# Altium footprint library PCB1.PcbLib: 103 footprints (part 5 of 7)
Each footprint in its own frame and in the unit in brackets; x right, y up, seen from the top. Pads: shape width x height; smd on the part's side, far side on the other; paste and mask are expansions set on the pad; w line width, h text height; cw(c..) or ccw(c..) is an arc to the next point about the centre after c.
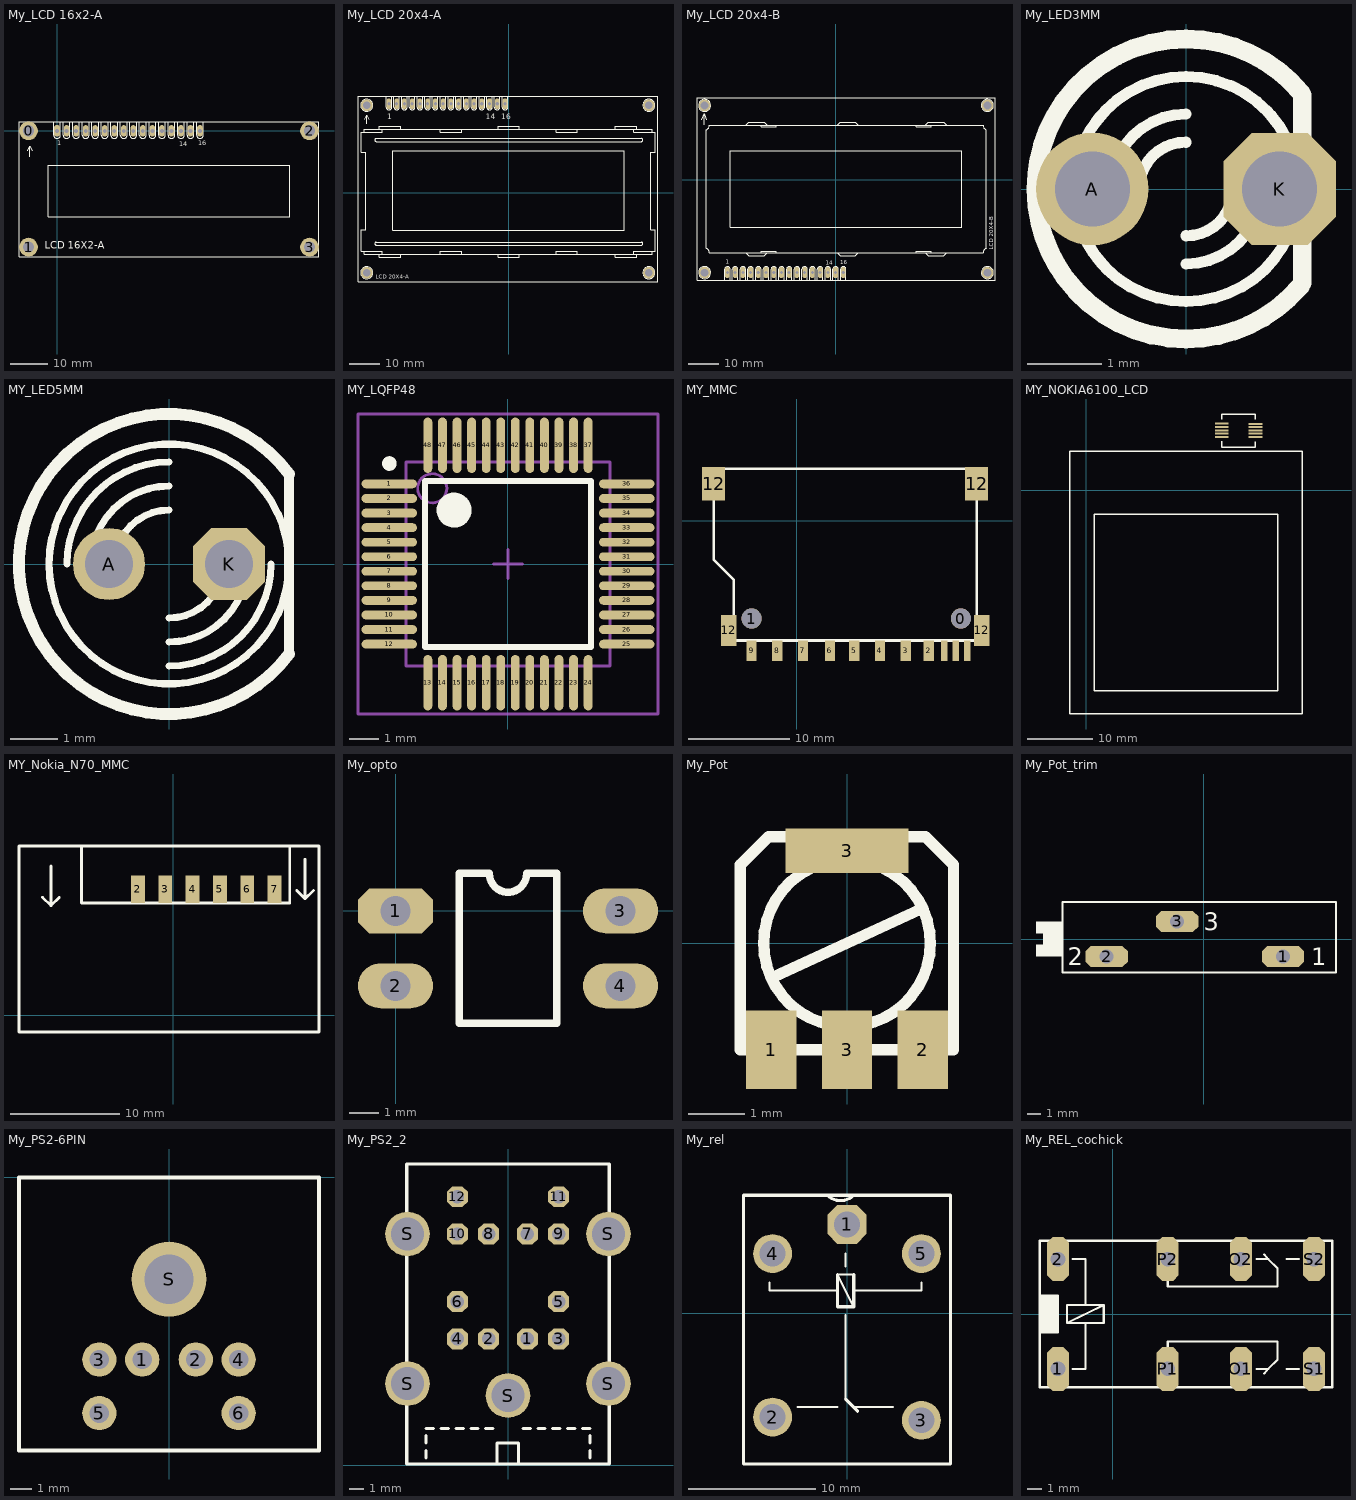
[diagram p4: the footprints below, top view; thin cyan lines are the x and y axes]

## My_LCD 16x2-A [mil]
pads (20):
  round 196.85 hole 118.11: 0(-300,0) 1(-300,-1220) 2(2650,0) 3(2650,-1220)
  oct 60x120 hole 40: 1(0,0)
  oval 60x120 hole 40: 2(100,0) 3(200,0) 4(300,0) 5(400,0) 6(500,0) 7(600,0) 8(700,0) 9(800,0) 10(900,0) 11(1000,0) 12(1100,0) 13(1200,0) 14(1300,0) 15(1400,0) 16(1500,0)
Top Overlay:
  circle w5: c-301.58,-1220.5 r49.21
  circle w5: c2651.18,-1220.5 r49.21
  circle w5: c-301.58,0 r49.21
  circle w5: c2651.18,0 r49.21
  lines w5: -310,-210 -285,-160 -260,-210 ; -285,-270.7 -285,-165 ; -35,95 -35,-45 ccw(c0,-45) 35,-45 35,95 ; 65,95 65,-45 ccw(c100,-45) 135,-45 135,95 ; 165,95 165,-45 ccw(c200,-45) 235,-45 235,95 ; 265,95 265,-45 ccw(c300,-45) 335,-45 335,95 ; 365,95 365,-45 ccw(c400,-45) 435,-45 435,95 ; 465,95 465,-45 ccw(c500,-45) 535,-45 535,95 ; 565,95 565,-45 ccw(c600,-45) 635,-45 635,95 ; 665,95 665,-45 ccw(c700,-45) 735,-45 735,95 ; 765,95 765,-45 ccw(c800,-45) 835,-45 835,95 ; 865,95 865,-45 ccw(c900,-45) 935,-45 935,95 ; 965,95 965,-45 ccw(c1000,-45) 1035,-45 1035,95 ; 1065,95 1065,-45 ccw(c1100,-45) 1135,-45 1135,95 ; 1165,95 1165,-45 ccw(c1200,-45) 1235,-45 1235,95 ; 1265,95 1265,-45 ccw(c1300,-45) 1335,-45 1335,95 ; 1365,95 1365,-45 ccw(c1400,-45) 1435,-45 1435,95 ; 1465,95 1465,-45 ccw(c1500,-45) 1535,-45 1535,95 ; -400,-1318.93 2749.6,-1318.93 2749.6,98.4 -400,98.4 -400,-1318.93 ; -94.88,-901.6 -94.88,-358.3 2444.49,-358.3 2444.49,-901.6 -94.88,-901.6
  text "14" at 1280,-160 h50
  text "1" at 0,-150 h50
  text "16" at 1480,-150 h50
  text "LCD 16X2-A" at -130,-1240 h75

## My_LCD 20x4-A [mil]
pads (20):
  oct 60x140 hole 40: 1(-1550.5,1150) 2(-1450.5,1150) 3(-1350.5,1150) 4(-1250.5,1150) 5(-1150.5,1150) 6(-1050.5,1150) 7(-950.5,1150) 8(-850.5,1150) 9(-750.5,1150) 10(-650.5,1150) 11(-550.5,1150) 12(-450.5,1150) 13(-350.5,1150) 14(-250.5,1150) 15(-150.5,1150) 16(-50.5,1150)
  round 150 hole 100: P$1(-1837.5,-1035) P$2(1808.5,-1035) P$3(1808.5,1130.5) P$4(-1837.5,1130)
Top Overlay:
  drawing of 163 lines, arcs and shapes, not listed
  text "LCD 20X4-A" at -1719.69,-1112.2 h50
  text "14" at -300,950 h70
  text "16" at -100,950 h70
  text "1" at -1575,950 h70

## My_LCD 20x4-B [mil]
pads (20):
  oct 60x140 hole 40: 1(-1400.5,-1199) 2(-1300.5,-1199) 3(-1200.5,-1199) 4(-1100.5,-1199) 5(-1000.5,-1199) 6(-900.5,-1199) 7(-800.5,-1199) 8(-700.5,-1199) 9(-600.5,-1199) 10(-500.5,-1199) 11(-400.5,-1199) 12(-300.5,-1199) 13(-200.5,-1199) 14(-100.5,-1199) 15(-0.5,-1199) 16(99.5,-1199)
  round 150 hole 100: P$1(-1695.5,965.5) P$2(-1695.5,-1199.5) P$3(1966,-1200) P$4(1966,965.5)
Top Overlay:
  circle w5: c-1695.5,-1199.5 r78
  circle w5: c1966,-1199.5 r78
  circle w5: c1966,965.5 r78
  circle w5: c-1695.5,965.5 r78
  lines w5: -1734.95,-1199.6 -1656.21,-1199.6 ; -1734.95,965.8 -1656.21,965.8 ; -1730,778.7 -1700,859 -1675,778.7 ; -1700,716.5 -1700,844 ; -1695.58,-1239 -1695.58,-1160.2 ; -1695.58,926.4 -1695.58,1005.1 ; -1673.23,-885.9 -1673.23,649.6 ; -1673.23,-885.83 cw(c-1692.91,-941.6) -1633.86,-944.88 -1161.42,-944.9 ; -1673.23,649.53 ccw(c-1692.91,705.3) -1633.86,708.58 -1161.42,708.6 ; -1435,-1295 -1435,-1155 cw(c-1400,-1157.5) -1365,-1160 -1365,-1295 ; -1335,-1295 -1335,-1155 cw(c-1300,-1157.5) -1265,-1160 -1265,-1295 ; -1235,-1295 -1235,-1155 cw(c-1200,-1157.5) -1165,-1160 -1165,-1295 ; -1135,-1295 -1135,-1155 cw(c-1100,-1157.5) -1065,-1160 -1065,-1295 ; -1035,-1295 -1035,-1155 cw(c-1000,-1157.5) -965,-1160 -965,-1295 ; -935,-1295 -935,-1155 cw(c-900,-1157.5) -865,-1160 -865,-1295 ; -835,-1295 -835,-1155 cw(c-800,-1157.5) -765,-1160 -765,-1295 ; -735,-1295 -735,-1155 cw(c-700,-1157.5) -665,-1160 -665,-1295 ; -635,-1295 -635,-1155 cw(c-600,-1157.5) -565,-1160 -565,-1295 ; -535,-1295 -535,-1155 cw(c-500,-1157.5) -465,-1160 -465,-1295 ; -435,-1295 -435,-1155 cw(c-400,-1157.5) -365,-1160 -365,-1295 ; -335,-1295 -335,-1155 cw(c-300,-1157.5) -265,-1160 -265,-1295 ; -235,-1295 -235,-1155 cw(c-200,-1157.5) -165,-1160 -165,-1295 ; -135,-1295 -135,-1155 cw(c-100,-1157.5) -65,-1160 -65,-1295 ; -35,-1295 -35,-1155 cw(c0,-1157.5) 35,-1160 35,-1295 ; 65,-1295 65,-1155 cw(c100,-1157.5) 135,-1160 135,-1295 ; 1631.19,316.1 1631.19,375.2 ; 1926.47,-1199.6 2005.21,-1199.6 ; 1926.47,965.8 2005.21,965.8 ; 1948.82,-885.9 1948.82,649.6 ; 1948.82,-885.83 ccw(c1968.5,-941.6) 1909.45,-944.88 1437.01,-944.9 ; 1948.82,649.53 cw(c1968.5,705.3) 1909.45,708.58 1437.01,708.6 ; 1965.84,-1239 1965.84,-1160.2 ; 1965.84,926.4 1965.84,1005.1 ; -1161.42,-944.9 -964.57,-944.9 ; -1161.42,-944.9 -1122.05,-984.3 -925.2,-984.3 -885.83,-944.9 ; -1161.42,708.6 -964.57,708.6 ; -1161.42,708.6 -1122.05,748 -925.2,748 -885.83,708.6 ; -964.57,-944.9 -885.83,-944.9 ; -964.57,-944.9 -964.57,-925.2 -767.72,-925.2 -767.72,-944.9 ; -964.57,708.6 -885.83,708.6 ; -964.57,708.6 -964.57,688.9 -767.72,688.9 -767.72,708.6 ; -885.83,-944.9 -767.72,-944.9 ; -885.83,708.6 -767.72,708.6 ; -767.72,-944.9 19.68,-944.9 ; -767.72,708.6 19.68,708.6 ; 19.68,-944.9 295.27,-944.9 ; 19.68,-944.9 59.05,-984.3 255.9,-984.3 295.27,-944.9 ; 19.68,708.6 295.27,708.6 ; 19.68,708.6 59.05,748 255.9,748 295.27,708.6 ; 295.27,-944.9 1043.31,-944.9 ; 295.27,708.6 1043.31,708.6 ; 1043.31,-944.9 1161.42,-944.9 ; 1043.31,-944.9 1043.31,-925.2 1240.16,-925.2 1240.16,-944.9 ; 1043.31,708.6 1161.42,708.6 ; 1043.31,708.6 1043.31,688.9 1240.16,688.9 1240.16,708.6 ; 1161.42,-944.9 1240.16,-944.9 ; 1161.42,-944.9 1200.79,-984.3 1397.64,-984.3 1437.01,-944.9 ; 1161.42,708.6 1240.16,708.6 ; 1161.42,708.6 1200.79,748 1397.64,748 1437.01,708.6 ; 1240.16,-944.9 1437.01,-944.9 ; 1240.16,708.6 1437.01,708.6 ; 1631.19,375.2 -1360.93,375.2 -1360.93,-609.1 1631.19,-609.1 1631.19,375.2 ; -1794,-1298 2064.27,-1298 2064.27,1064.2 -1794,1064.2 -1794,-1298
  text "14" at -130,-1100 h50
  text "1" at -1420,-1084 h50
  text "16" at 60,-1094 h50
  text "LCD 20X4-B" at 2040.16,-903.2 h50

## My_LED3MM [mil]
pads (2):
  round 60 hole 40: A(-50,0)
  oct 60x60 hole 40: K(50,0)
Top Overlay:
  lines w6: -48,36 cw(c0,0) 0,60 cw(c0,0) 48.82,34.87 ; -47.36,-36.83 ccw(c0,0) 0,-60 ccw(c0,0) 47.36,-36.83 ; -46.09,38.41 ccw(c0,0) -60,0 ccw(c0,0) -44.85,-39.86 ; -40,0 cw(c0,0) 0,40 ; -25,0 cw(c0,0) 0,25 ; 0,-40 ccw(c0,0) 40,0 ; 0,-25 ccw(c0,0) 25,0 ; 45.56,39.05 cw(c0,0) 60,0 cw(c0,0) 46.09,-38.41
  lines w10: -70.59,37.65 cw(c0,0) 0,80 cw(c0,0) 61.46,51.22 ; -70.44,37.93 ccw(c0,0) -80,0 ccw(c0,0) -68.13,-41.92 ; -69.46,-39.69 ccw(c0,0) 0,-80 ccw(c0,0) 61.07,-51.68 ; 62,-50 62,50

## MY_LED5MM [mil]
pads (2):
  round 60 hole 40: A(-50,0)
  oct 60x60 hole 40: K(50,0)
Top Overlay:
  circle w6: c0,0 r100
  lines w6: -85,0 cw(c0,0) 0,85 ; -65,0 cw(c0,0) 0,65 ; -45,0 cw(c0,0) 0,45 ; 0,-85 ccw(c0,0) 85,0 ; 0,-65 ccw(c0,0) 65,0 ; 0,-45 ccw(c0,0) 45,0
  lines w8: 100,-75 100,75
  lines w10: 100,-75 cw(c0,0) 100,75

## MY_LQFP48 [mm] "TSQFP, 48-Leads, Body 9.0x9.0mm (max), Pitch 0.50mm, IPC Medium Density"
height 1.6
pads (48):
  oval 1.905x0.3 smd: 1(-4.075,2.75) 2(-4.075,2.25) 3(-4.075,1.75) 4(-4.075,1.25) 5(-4.075,0.75) 6(-4.075,0.25) 7(-4.075,-0.25) 8(-4.075,-0.75) 9(-4.075,-1.25) 10(-4.075,-1.75) 11(-4.075,-2.25) 12(-4.075,-2.75) 25(4.075,-2.75) 26(4.075,-2.25) 27(4.075,-1.75) 28(4.075,-1.25) 29(4.075,-0.75) 30(4.075,-0.25) 31(4.075,0.25) 32(4.075,0.75) 33(4.075,1.25) 34(4.075,1.75) 35(4.075,2.25) 36(4.075,2.75)
  oval 0.3x1.905 smd: 13(-2.75,-4.075) 14(-2.25,-4.075) 15(-1.75,-4.075) 16(-1.25,-4.075) 17(-0.75,-4.075) 18(-0.25,-4.075) 19(0.25,-4.075) 20(0.75,-4.075) 21(1.25,-4.075) 22(1.75,-4.075) 23(2.25,-4.075) 24(2.75,-4.075) 37(2.75,4.075) 38(2.25,4.075) 39(1.75,4.075) 40(1.25,4.075) 41(0.75,4.075) 42(0.25,4.075) 43(-0.25,4.075) 44(-0.75,4.075) 45(-1.25,4.075) 46(-1.75,4.075) 47(-2.25,4.075) 48(-2.75,4.075)
Top Overlay:
  circle w0.25: c-4.075,3.45 r0.125
  circle w0.6: c-1.85,1.85 r0.3
  lines w0.2: -2.85,-2.85 -2.85,2.85 2.85,2.85 2.85,-2.85 -2.85,-2.85
Mechanical 13:
  circle w0.1: c-2.6,2.6 r0.5
  lines w0.1: -3.5,-3.5 -3.5,3.5 3.5,3.5 3.5,-3.5 -3.5,-3.5
Mechanical 15:
  lines w0.1: -0.5,0 0.5,0 ; 0,-0.5 0,0.5 ; -5.15,-5.15 -5.15,5.15 5.15,5.15 5.15,-5.15 -5.15,-5.15
3D body: height 1.6, standoff 0.05, extent -3.5,-3.5 3.5,3.5

## MY_MMC [mil]
height 78.74
pads (17):
  round 78.74 hole 78.74: 0(640,-380) 1(-175,-380)
  rect 25x80 smd: 1(575,-505) 10(620,-505) 11(665,-505)
  rect 40x80 smd: 2(515,-505) 3(425,-505) 4(325,-505) 5(225,-505) 6(130,-505) 7(25,-505) 8(-75,-505) 9(-175,-505)
  rect 90x130 smd: 12(-322.64,144.61) 12(700.98,144.61)
  rect 60x120 smd: 12(-263.58,-426.26) 12(720.67,-426.26)
Top Overlay:
  lines w10: -322.64,-150.67 -243.9,-229.41 -243.9,-465.63 700.98,-465.63 700.98,203.66 -322.64,203.66 -322.64,-150.67

## MY_NOKIA6100_LCD [mm]
height 2
pads (10):
  rect 2.1x0.3 smd: 1(20.699,10.148) 2(20.699,9.648) 3(20.699,9.148) 4(20.699,8.648) 5(20.699,8.148) 6(25.833,8.14) 7(25.833,8.64) 8(25.833,9.14) 9(25.833,9.64) 10(25.833,10.14)
Top Overlay:
  lines w0.127: 25.4,-3.683 25.654,-3.683
  lines w0.203: 20.694,6.557 20.694,7.447 ; 20.701,6.553 25.781,6.553 ; 20.701,11.633 25.781,11.633 ; 20.704,10.837 20.704,11.627 ; 25.784,10.837 25.784,11.617 ; 25.794,6.557 25.794,7.427 ; -2.54,-34.163 -2.54,5.969 33.02,5.969 33.02,-34.163 -2.54,-34.163 ; 1.27,-30.607 1.27,-3.683 25.654,-3.683 29.21,-3.683 29.21,-30.607 1.27,-30.607

## MY_Nokia_N70_MMC [mil]
height 78.74
pads (6):
  rect 50x100 smd: 2(-127.13,454.46) 3(-28.7,454.46) 4(69.72,454.46) 5(168.15,454.46) 6(266.57,454.46) 7(365,454.46)
Top Overlay:
  lines w10: -470,425 -440,395 ; -440,537.5 -440,442.5 -440,395 ; -410,425 -440,395 ; -330,605 -330,405 420,405 420,610 ; 445,450 475,420 ; 475,562.5 475,467.5 475,420 ; 505,450 475,420 ; -555,-60 -555,610 525,610 525,-60 -555,-60

## My_opto [mil]
pads (4):
  oct 100x60 hole 40: 1(-0.5,-0.5)
  oval 100x60 hole 40: 2(-0.5,-100.5) 3(299.5,-0.5) 4(299.5,-100.5)
Top Overlay:
  lines w10: 84.5,-150.5 84.5,49.5 124.5,49.5 ccw(c149.5,49.5) 174.5,49.5 214.5,49.5 214.5,-150.5 84.5,-150.5

## My_Pot [mm]
pads (4):
  rect 0.9x1.4 smd: 1(-1.35,-1.9) 2(1.35,-1.9) 3(0,-1.9)
  rect 2.2x0.8 smd: 3(0,1.65)
Top Overlay:
  lines w0.203: -1.3,-0.6 1.3,0.6 ; -1.9,-1.9 -1.6,-1.9 -1.6,-2.4 -1.1,-2.4 -1.1,-1.9 -0.25,-1.9 -0.25,-2.4 0.25,-2.4 0.25,-1.9 1.1,-1.9 1.1,-2.4 1.6,-2.4 1.6,-1.9 1.9,-1.9 1.9,1.4 1.4,1.9 -1.4,1.9 -1.9,1.4 -1.9,-1.9 ; -1,-1.1 ccw(c0,0) 1,-1.1 ccw(c0,0) 1,1.1 ccw(c0,0) -1,1.1 ccw(c0,0) -1,-1.1

## My_Pot_trim [mil]
pads (3):
  oct 120x60 hole 40: 1(225,-50) 2(-275,-50) 3(-75,50)
Top Overlay:
  rectangle: -475,-50 -400,-15
  rectangle: -475,15 -400,50
  rectangle: -455,-15 -400,15
  lines w6: -400,-95 375,-95 375,105 -400,105 -400,-95
  text "1" at 305,-75 h50
  text "3" at 0,25 h50
  text "2" at -385,-75 h50

## My_PS2-6PIN [mm]
pads (7):
  round 1.6 hole 0.9: 1(-1.25,-8.5) 2(1.25,-8.5) 3(-3.25,-8.5) 4(3.25,-8.5) 5(-3.25,-11) 6(3.25,-11)
  round 3.5 hole 2.3: S(0,-4.75)
Top Overlay:
  lines w0.2: -7,-12.75 -7,0 7,0 7,-12.75 -7,-12.75

## My_PS2_2 [mm]
pads (17):
  oct 1.408x1.408 hole 0.9: 1(1.3,8.5) 2(-1.3,8.5) 3(3.4,8.5) 4(-3.4,8.5) 5(3.4,11) 6(-3.4,11) 7(1.3,15.55) 8(-1.3,15.55) 9(3.4,15.55) 10(-3.4,15.55) 11(3.4,18.05) 12(-3.4,18.05)
  round 3 hole 2.2 unplated: S(-6.75,5.5) S(-6.75,15.55) S(0,4.7) S(6.75,5.5) S(6.75,15.55)
Top Overlay:
  lines w0.203: -5.5,0.5 -5.5,1 ; -5.5,1.5 -5.5,2 ; -5.5,2.5 -5,2.5 ; -4.5,2.5 -4,2.5 ; -3.5,2.5 -3,2.5 ; -2.5,2.5 -2,2.5 ; -1.5,2.5 -1,2.5 ; -0.75,0.1 -0.75,1.5 0.7,1.5 0.7,0.1 ; 1,2.5 1.5,2.5 ; 2,2.5 2.5,2.5 ; 3,2.5 3.5,2.5 ; 4,2.5 4.5,2.5 ; 5,2.5 5.5,2.5 ; 5.5,0.5 5.5,1 ; 5.5,1.5 5.5,2 ; -6.8,0.1 -6.8,20.25 6.8,20.25 6.8,0.1 -6.8,0.1

## My_rel [mil]
pads (5):
  oct 120x120 hole 80: 1(-0.5,274.5)
  round 120 hole 80: 2(-230.5,-320.5) 3(229.5,-330.5) 4(-230.5,184.5) 5(229.5,184.5)
Top Overlay:
  lines w6: -240,95.09 -240,70.09 -30,70.09 ; -153,-289.91 -30,-289.91 ; -5,-264.91 -5,-4.91 ; -5,145.09 -5,185.09 ; 20,-289.91 142,-289.91 ; 20,20.09 -30,120.09 20,120.09 ; 20,70.09 230,70.09 230,95.09
  lines w10: -60.5,364.5 ccw(c-20.5,404.5) 19.5,364.5 ; -30,120.09 -30,70.09 -30,20.09 20,20.09 20,70.09 20,120.09 ; -5,-264.91 20,-289.91 32,-302.91 ; -320.5,-465.5 319.5,-465.5 319.5,364.5 -320.5,364.5 -320.5,-465.5

## My_REL_cochick [mil]
pads (8):
  oct 60x120 hole 40: 1(-150,-150) 2(-150,150) O1(350,-150) O2(350,150) P1(150,-150) P2(150,150) S1(550,-150) S2(550,150)
Top Overlay:
  rectangle: -200,-50 -150,50
  lines w6: -110,-150 -75,-150 -75,-25 ; -110,150 -75,150 -75,25 ; 150,-110 150,-75 450,-75 450,-125 425,-150 ; 150,110 150,75 450,75 450,125 425,150 ; 393,-150 425,-150 ; 393,150 425,150 ; 413,-163 425,-150 ; 413,163 425,150 ; 475,-150 508,-150 ; 475,150 508,150 ; -200,-50 -200,-200 600,-200 600,200 -200,200 -200,50 ; -200,-50 -150,-50 -150,50 -200,50 ; -200,-50 -200,50 ; -125,-25 -25,25 ; -125,-25 -75,-25 ; -125,-25 -125,25 -75,25 ; -75,-25 -25,-25 -25,25 ; -75,25 -25,25